# EAGLE library part ARDUINO_PRO_MINI_2 (library arduino)
Arduino Pro Mini Microcontroller ATmega328 Operating Voltage 3.3V or 5V (depending on model) Input Voltage 3.35 -12 V (3.3V model) or 5 - 12 V (5V model) Digital I/O Pins 14 (of which 6 provide PWM output) Analog Input Pins 6 DC Current per I/O Pin 40 mA Flash Memory 32 kB (of which 0.5 kB used by bootloader) SRAM 2 kB EEPROM 1 kB Clock Speed 8 MHz (3.3V model) or 16 MHz (5V model)
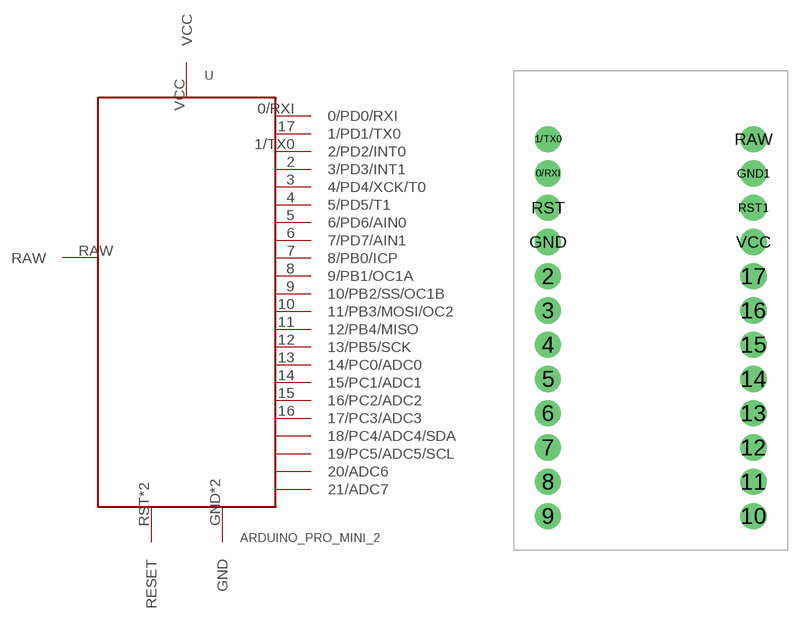
[diagram p1: symbol with the pads of ARDUINO_PRO_MINI_2; footprint ARDUINO_PRO_MINI_2]

Designator prefix -

## ARDUINO_PRO_MINI_21  [ARDUINO_PRO_MINI_2]
0/RXI  0/PD0/RXI
1/TX0  2/PD2/INT0
2  3/PD3/INT1
3  4/PD4/XCK/T0
4  5/PD5/T1
5  6/PD6/AIN0
6  7/PD7/AIN1
7  8/PB0/ICP
8  9/PB1/OC1A
9  10/PB2/SS/OC1B
10  11/PB3/MOSI/OC2
11  12/PB4/MISO
12  13/PB5/SCK
13  14/PC0/ADC0
14  15/PC1/ADC1
15  16/PC2/ADC2
16  17/PC3/ADC3
17  1/PD1/TX0
GND  GND
GND1  GND
RAW  RAW
RST  RESET
RST1  RESET
VCC  VCC  pwr

## Footprint ARDUINO_PRO_MINI_2 (pad centres in mm)
Arduino Pro Mini Microcontroller ATmega328 Operating Voltage 3.3V or 5V (depending on model) Input Voltage 3.35 -12 V (3.3V model) or 5 - 12 V (5V model) Digital I/O Pins 14 (of which 6 provide PWM output) Analog Input Pins 6 DC Current per I/O Pin 40 mA Flash Memory 32 kB (of which 0.5 kB used by bootloader) SRAM 2 kB EEPROM 1 kB Clock Speed 8 MHz (3.3V model) or 16 MHz (5V model)
drill 0.254 pad 1.93: 0/RXI 1.27,26.67; 1/TX0 1.27,29.21; 2 1.27,19.05; 3 1.27,16.51; 4 1.27,13.97; 5 1.27,11.43; 6 1.27,8.89; 7 1.27,6.35; 8 1.27,3.81; 9 1.27,1.27; 10 16.51,1.27; 11 16.51,3.81; 12 16.51,6.35; 13 16.51,8.89; 14 16.51,11.43; 15 16.51,13.97; 16 16.51,16.51; 17 16.51,19.05; GND 1.27,21.59; GND1 16.51,26.67; RAW 16.51,29.21; RST 1.27,24.13; RST1 16.51,24.13; VCC 16.51,21.59